# Altium footprint library mikroBUS_Add-on_standard.PcbLib: 3 footprints
Each footprint in its own frame and in the unit in brackets; x right, y up, seen from the top. Pads: shape width x height; smd on the part's side, far side on the other; paste and mask are expansions set on the pad; w line width, h text height; cw(c..) or ccw(c..) is an arc to the next point about the centre after c.
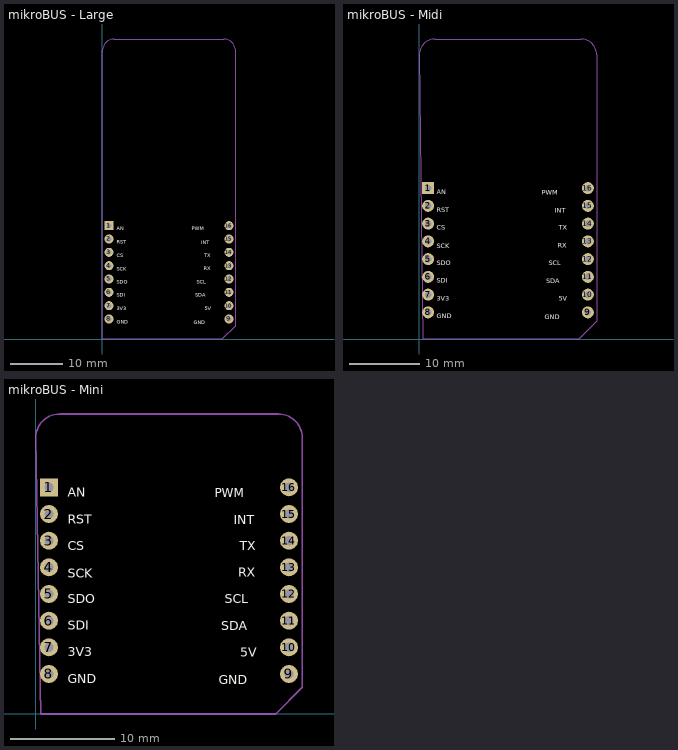
[diagram p0: the footprints below, top view; thin cyan lines are the x and y axes]

## mikroBUS - Large [mm]
height 1.2
pads (16):
  rect 1.7x1.7 hole 0.9: 1(1.27,21.59)
  round 1.7 hole 0.9: 2(1.27,19.05) 3(1.27,16.51) 4(1.27,13.97) 5(1.27,11.43) 6(1.27,8.89) 7(1.27,6.35) 8(1.27,3.81) 9(24.13,3.81) 10(24.13,6.35) 11(24.13,8.89) 12(24.13,11.43) 13(24.13,13.97) 14(24.13,16.51) 15(24.13,19.05) 16(24.13,21.59)
Top Overlay:
  text "SCK" at 2.787,12.7 h1.2
  text "CS" at 2.787,15.316 h1.2
  text "RST" at 2.787,17.856 h1.2
  text "AN" at 2.787,20.396 h1.2
  text "GND" at 2.787,2.653 h1.2
  text "3V3" at 2.787,5.212 h1.2
  text "SDI" at 2.787,7.727 h1.2
  text "SDO" at 2.787,10.255 h1.2
  text "GND" at 17.453,2.563 h1.2
  text "5V" at 19.466,5.166 h1.2
  text "SDA" at 17.69,7.719 h1.2
  text "SCL" at 18.024,10.287 h1.2
  text "PWM" at 17.056,20.385 h1.2
  text "TX" at 19.427,15.326 h1.2
  text "INT" at 18.858,17.811 h1.2
  text "RX" at 19.3,12.786 h1.2
Bottom Overlay:
  text "CS" at 6.132,15.316 h1.2
  text "AN" at 6.186,20.32 h1.2
  text "RST" at 7.668,17.907 h1.2
  text "SCK" at 7.937,12.81 h1.2
  text "SDO" at 8.107,10.27 h1.2
  text "3V3" at 7.145,5.156 h1.2
  text "SDI" at 6.745,7.696 h1.2
  text "GND" at 8.206,2.642 h1.2
  text "INT" at 22.329,17.78 h1.2
  text "PWM" at 22.329,20.244 h1.2
  text "GND" at 22.329,2.54 h1.2
  text "SCL" at 22.329,10.16 h1.2
  text "5V" at 22.329,5.08 h1.2
  text "SDA" at 22.329,7.747 h1.2
  text "TX" at 22.329,15.24 h1.2
  text "RX" at 22.329,12.776 h1.2
Mechanical 6:
  lines w0.152: 0,0 22.86,0 25.4,2.54 25.4,54.864 ccw(c23.114,54.864) 23.114,57.15 2.286,57.15 ccw(c2.286,54.864) 0,54.864 0,0
3D body "Header 1x8.stp": height 2.08, standoff -10.11, extent -0.127,2.54 2.793,22.86
3D body "Header 1x8.stp": height 2.08, standoff -10.11, extent 22.733,2.54 25.653,22.86

## mikroBUS - Midi [mm]
height 1.2
pads (16):
  rect 1.7x1.7 hole 0.9: 1(1.27,21.59)
  round 1.7 hole 0.9: 2(1.27,19.05) 3(1.27,16.51) 4(1.27,13.97) 5(1.27,11.43) 6(1.27,8.89) 7(1.27,6.35) 8(1.27,3.81) 9(24.13,3.81) 10(24.13,6.35) 11(24.13,8.89) 12(24.13,11.43) 13(24.13,13.97) 14(24.13,16.51) 15(24.13,19.05) 16(24.13,21.59)
Top Overlay:
  text "GND" at 17.953,2.553 h1.2
  text "5V" at 19.966,5.156 h1.2
  text "SDA" at 18.19,7.709 h1.2
  text "SCL" at 18.524,10.277 h1.2
  text "RX" at 19.8,12.776 h1.2
  text "TX" at 19.927,15.316 h1.2
  text "INT" at 19.358,17.801 h1.2
  text "PWM" at 17.556,20.375 h1.2
  text "RST" at 2.537,17.856 h1.2
  text "CS" at 2.537,15.316 h1.2
  text "SCK" at 2.537,12.7 h1.2
  text "SDO" at 2.537,10.255 h1.2
  text "SDI" at 2.537,7.727 h1.2
  text "3V3" at 2.537,5.212 h1.2
  text "GND" at 2.537,2.653 h1.2
  text "AN" at 2.537,20.396 h1.2
Bottom Overlay:
  text "GND" at 22.829,2.544 h1.2
  text "5V" at 22.829,5.084 h1.2
  text "SDA" at 22.829,7.751 h1.2
  text "SCL" at 22.829,10.164 h1.2
  text "RX" at 22.829,12.78 h1.2
  text "TX" at 22.829,15.244 h1.2
  text "INT" at 22.829,17.784 h1.2
  text "PWM" at 22.829,20.247 h1.2
  text "AN" at 5.936,20.32 h1.2
  text "GND" at 7.956,2.642 h1.2
  text "3V3" at 6.895,5.156 h1.2
  text "SDI" at 6.495,7.696 h1.2
  text "SDO" at 7.857,10.27 h1.2
  text "SCK" at 7.687,12.81 h1.2
  text "CS" at 5.882,15.316 h1.2
  text "RST" at 7.418,17.907 h1.2
Mechanical 6:
  lines w0.152: 0,40.64 cw(c2.286,40.64) 2.286,42.926 23.114,42.926 cw(c23.114,40.64) 25.4,40.64 25.4,2.54 22.86,0 0.5,0 0,40.64
3D body "Header 1x8.stp": height 2.08, standoff -10.11, extent -0.127,2.54 2.793,22.86
3D body "Header 1x8.stp": height 2.08, standoff -10.11, extent 22.733,2.54 25.653,22.86

## mikroBUS - Mini [mm]
height 1.2
pads (16):
  rect 1.7x1.7 hole 0.9: 1(1.27,21.59)
  round 1.7 hole 0.9: 2(1.27,19.05) 3(1.27,16.51) 4(1.27,13.97) 5(1.27,11.43) 6(1.27,8.89) 7(1.27,6.35) 8(1.27,3.81) 9(24.13,3.81) 10(24.13,6.35) 11(24.13,8.89) 12(24.13,11.43) 13(24.13,13.97) 14(24.13,16.51) 15(24.13,19.05) 16(24.13,21.59)
Top Overlay:
  text "PWM" at 17.056,20.375 h1.4
  text "INT" at 18.858,17.801 h1.5
  text "TX" at 19.427,15.316 h1.5
  text "RX" at 19.3,12.776 h1.5
  text "SCL" at 18.024,10.277 h1.5
  text "SDA" at 17.69,7.709 h1.5
  text "5V" at 19.466,5.156 h1.5
  text "GND" at 17.453,2.553 h1.5
  text "AN" at 3.037,20.396 h1.5
  text "GND" at 3.037,2.653 h1.5
  text "3V3" at 3.037,5.212 h1.5
  text "SDI" at 3.037,7.727 h1.5
  text "SDO" at 3.037,10.255 h1.5
  text "SCK" at 3.037,12.7 h1.5
  text "CS" at 3.037,15.316 h1.5
  text "RST" at 3.037,17.856 h1.5
Bottom Overlay:
  text "PWM" at 22.329,20.329 h1.5
  text "INT" at 22.329,17.865 h1.5
  text "TX" at 22.329,15.325 h1.5
  text "RX" at 22.329,12.862 h1.5
  text "SCL" at 22.329,10.245 h1.5
  text "SDA" at 22.329,7.832 h1.5
  text "5V" at 22.329,5.165 h1.5
  text "GND" at 22.329,2.625 h1.5
  text "RST" at 7.668,17.907 h1.5
  text "CS" at 6.132,15.316 h1.5
  text "SCK" at 7.937,12.81 h1.5
  text "SDO" at 8.107,10.27 h1.5
  text "SDI" at 6.745,7.696 h1.5
  text "3V3" at 7.145,5.156 h1.5
  text "GND" at 8.206,2.642 h1.5
  text "AN" at 6.186,20.32 h1.5
Mechanical 6:
  lines w0.152: 0,26.289 cw(c2.286,26.289) 2.286,28.575 23.114,28.575 cw(c23.114,26.289) 25.4,26.289 25.4,2.54 22.86,0 0.5,0 0,26.289
3D body "Header 1x8.stp": height 2.08, standoff -10.11, extent 22.733,2.54 25.653,22.86
3D body "Header 1x8.stp": height 2.08, standoff -10.11, extent -0.127,2.54 2.793,22.86